# EAGLE library part MAX1811 (library DAC)
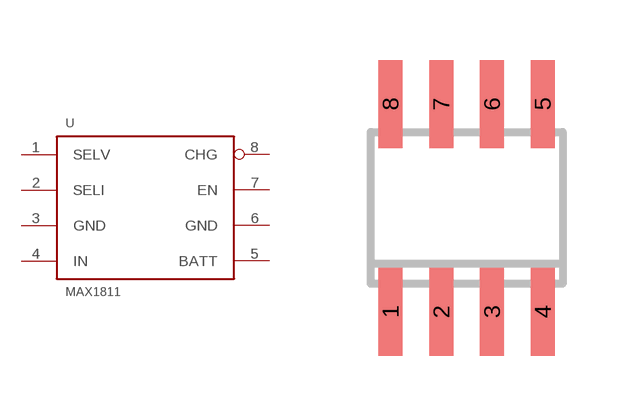
[diagram p32: symbol with the pads of SO8; footprint SO8]

Designator prefix U

## MAX1811ESA  [SO8]
1  SELV  in
2  SELI  in
3  GND  sup
4  IN  in
5  BATT  out
6  GND  sup
7  EN  in
8  CHG  out

## Footprint SO8 (pad centres in mm)
smd 0.6 x 2.2: 1 -1.905,-2.6; 2 -0.635,-2.6; 3 0.635,-2.6; 4 1.905,-2.6; 5 1.905,2.6; 6 0.635,2.6; 7 -0.635,2.6; 8 -1.905,2.6